# Altium schematic symbol library TF_SD.SchLib: 1 symbol
Pins are listed as number, name and electrical type; pins without a type are passive.

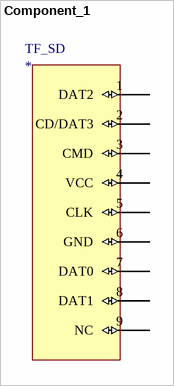
[diagram p0: symbol Component_1]

## Component_1
designator TF_SD
footprint TF_SD
pins: 1 DAT2 (io), 2 CD/DAT3 (io), 3 CMD (io), 4 VCC (io), 5 CLK (io), 6 GND (io), 7 DAT0 (io), 8 DAT1 (io), 9 NC (io)